# EAGLE library part MC9S12XF-144 (library freescale)
MC9S12XF512 Source: www.freescale.com .. MC9S12XF512V1RM.pdf
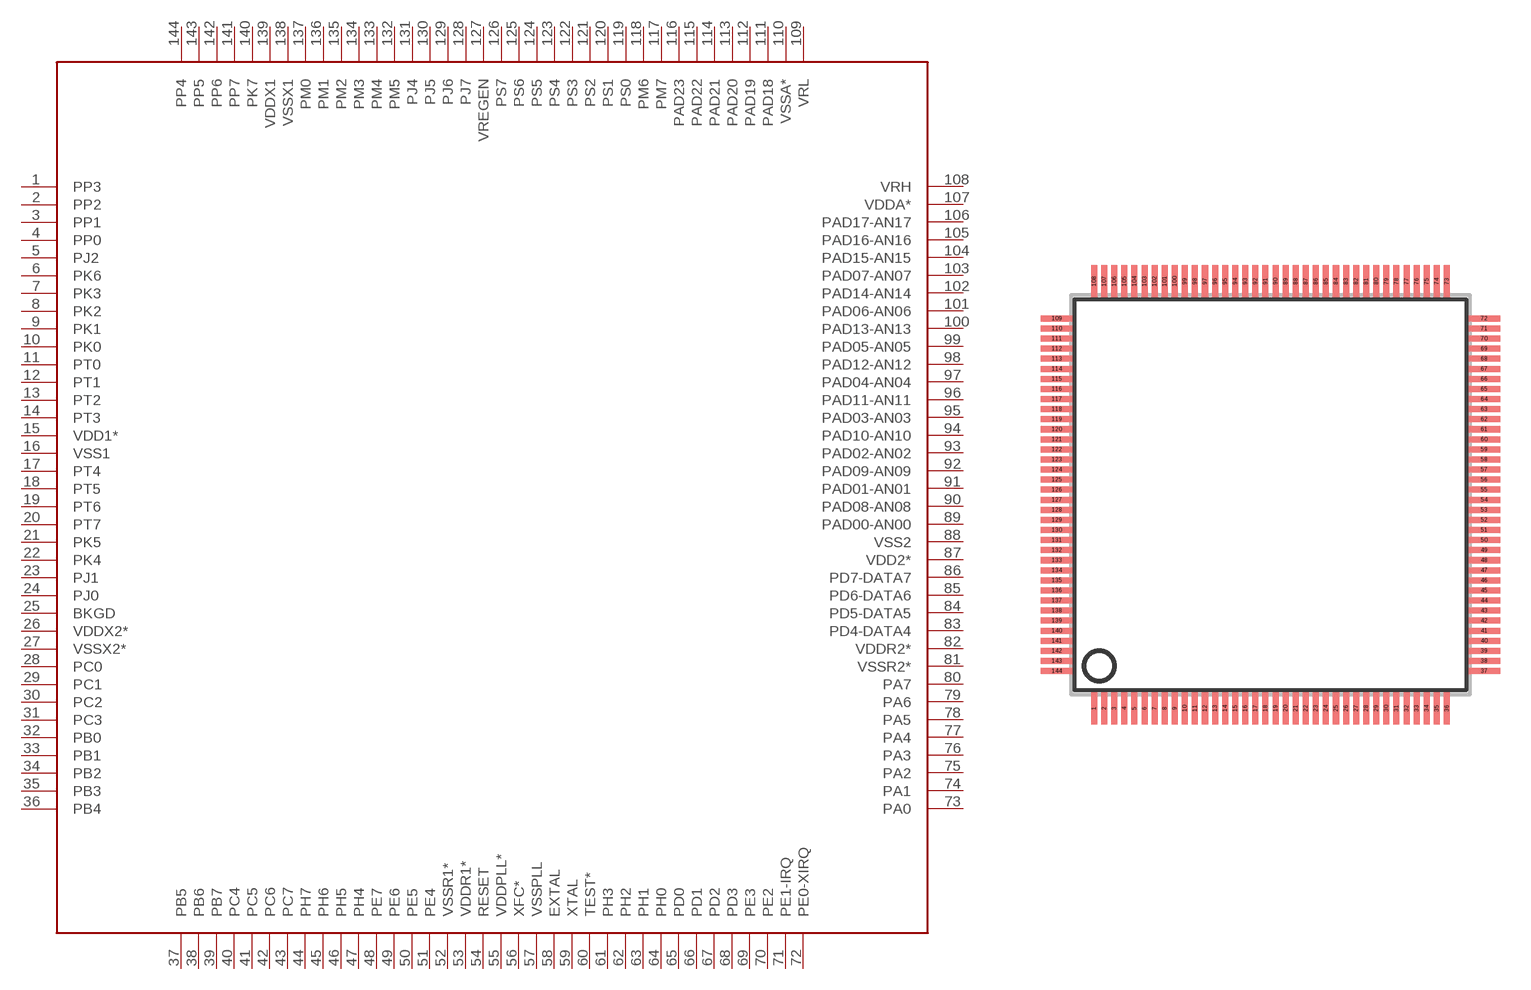
[diagram p5: symbol with the pads of SQFP-S-20X20-144; footprint SQFP-S-20X20-144]

Designator prefix IC

## MC9S12XF-144 (MPN: LFDAS12XFLT; OC_FARNELL: unknown; OC_NEWARK: 14M5920)  [SQFP-S-20X20-144]
1  PP3
2  PP2
3  PP1
4  PP0
5  PJ2
6  PK6
7  PK3
8  PK2
9  PK1
10  PK0
11  PT0
12  PT1
13  PT2
14  PT3
15  VDD1*  pwr
16  VSS1  pwr
17  PT4
18  PT5
19  PT6
20  PT7
21  PK5
22  PK4
23  PJ1
24  PJ0
25  BKGD
26  VDDX2*  pwr
27  VSSX2*  pwr
28  PC0
29  PC1
30  PC2
31  PC3
32  PB0
33  PB1
34  PB2
35  PB3
36  PB4
37  PB5
38  PB6
39  PB7
40  PC4
41  PC5
42  PC6
43  PC7
44  PH7
45  PH6
46  PH5
47  PH4
48  PE7
49  PE6
50  PE5
51  PE4
52  VSSR1*  pwr
53  VDDR1*  pwr
54  RESET
55  VDDPLL*  pwr
56  XFC*  pwr
57  VSSPLL  pwr
58  EXTAL  pas
59  XTAL  pas
60  TEST*  pwr
61  PH3
62  PH2
63  PH1
64  PH0
65  PD0
66  PD1
67  PD2
68  PD3
69  PE3
70  PE2
71  PE1-IRQ  in
72  PE0-XIRQ  in
73  PA0
74  PA1
75  PA2
76  PA3
77  PA4
78  PA5
79  PA6
80  PA7
81  VSSR2*  pwr
82  VDDR2*  pwr
83  PD4-DATA4
84  PD5-DATA5
85  PD6-DATA6
86  PD7-DATA7
87  VDD2*  pwr
88  VSS2  pwr
89  PAD00-AN00
90  PAD08-AN08
91  PAD01-AN01
92  PAD09-AN09
93  PAD02-AN02
94  PAD10-AN10
95  PAD03-AN03
96  PAD11-AN11
97  PAD04-AN04
98  PAD12-AN12
99  PAD05-AN05
100  PAD13-AN13
101  PAD06-AN06
102  PAD14-AN14
103  PAD07-AN07
104  PAD15-AN15
105  PAD16-AN16
106  PAD17-AN17
107  VDDA*  pwr
108  VRH  pwr
109  VRL  pwr
110  VSSA*  pwr
111  PAD18
112  PAD19
113  PAD20
114  PAD21
115  PAD22
116  PAD23
117  PM7
118  PM6
119  PS0
120  PS1
121  PS2
122  PS3
123  PS4
124  PS5
125  PS6
126  PS7
127  VREGEN
128  PJ7
129  PJ6
130  PJ5
131  PJ4
132  PM5
133  PM4
134  PM3
135  PM2
136  PM1
137  PM0
138  VSSX1
139  VDDX1  pwr
140  PK7
141  PP7
142  PP6
143  PP5
144  PP4

## Footprint SQFP-S-20X20-144 (pad centres in mm)
QFP144 shrink quad flat pack, square
smd 0.3 x 1.6: 1 -8.75,-10.6; 2 -8.25,-10.6; 3 -7.75,-10.6; 4 -7.25,-10.6; 5 -6.75,-10.6; 6 -6.25,-10.6; 7 -5.75,-10.6; 8 -5.25,-10.6; 9 -4.75,-10.6; 10 -4.25,-10.6; 11 -3.75,-10.6; 12 -3.25,-10.6; 13 -2.75,-10.6; 14 -2.25,-10.6; 15 -1.75,-10.6; 16 -1.25,-10.6; 17 -0.75,-10.6; 18 -0.25,-10.6; 19 0.25,-10.6; 20 0.75,-10.6; 21 1.25,-10.6; 22 1.75,-10.6; 23 2.25,-10.6; 24 2.75,-10.6; 25 3.25,-10.6; 26 3.75,-10.6; 27 4.25,-10.6; 28 4.75,-10.6; 29 5.25,-10.6; 30 5.75,-10.6; 31 6.25,-10.6; 32 6.75,-10.6; 33 7.25,-10.6; 34 7.75,-10.6; 35 8.25,-10.6; 36 8.75,-10.6; 73 8.75,10.6; 74 8.25,10.6; 75 7.75,10.6; 76 7.25,10.6; 77 6.75,10.6; 78 6.25,10.6; 79 5.75,10.6; 80 5.25,10.6; 81 4.75,10.6; 82 4.25,10.6; 83 3.75,10.6; 84 3.25,10.6; 85 2.75,10.6; 86 2.25,10.6; 87 1.75,10.6; 88 1.25,10.6; 89 0.75,10.6; 90 0.25,10.6; 91 -0.25,10.6; 92 -0.75,10.6; 93 -1.25,10.6; 94 -1.75,10.6; 95 -2.25,10.6; 96 -2.75,10.6; 97 -3.25,10.6; 98 -3.75,10.6; 99 -4.25,10.6; 100 -4.75,10.6; 101 -5.25,10.6; 102 -5.75,10.6; 103 -6.25,10.6; 104 -6.75,10.6; 105 -7.25,10.6; 106 -7.75,10.6; 107 -8.25,10.6; 108 -8.75,10.6
smd 1.6 x 0.3: 37 10.6,-8.75; 38 10.6,-8.25; 39 10.6,-7.75; 40 10.6,-7.25; 41 10.6,-6.75; 42 10.6,-6.25; 43 10.6,-5.75; 44 10.6,-5.25; 45 10.6,-4.75; 46 10.6,-4.25; 47 10.6,-3.75; 48 10.6,-3.25; 49 10.6,-2.75; 50 10.6,-2.25; 51 10.6,-1.75; 52 10.6,-1.25; 53 10.6,-0.75; 54 10.6,-0.25; 55 10.6,0.25; 56 10.6,0.75; 57 10.6,1.25; 58 10.6,1.75; 59 10.6,2.25; 60 10.6,2.75; 61 10.6,3.25; 62 10.6,3.75; 63 10.6,4.25; 64 10.6,4.75; 65 10.6,5.25; 66 10.6,5.75; 67 10.6,6.25; 68 10.6,6.75; 69 10.6,7.25; 70 10.6,7.75; 71 10.6,8.25; 72 10.6,8.75; 109 -10.6,8.75; 110 -10.6,8.25; 111 -10.6,7.75; 112 -10.6,7.25; 113 -10.6,6.75; 114 -10.6,6.25; 115 -10.6,5.75; 116 -10.6,5.25; 117 -10.6,4.75; 118 -10.6,4.25; 119 -10.6,3.75; 120 -10.6,3.25; 121 -10.6,2.75; 122 -10.6,2.25; 123 -10.6,1.75; 124 -10.6,1.25; 125 -10.6,0.75; 126 -10.6,0.25; 127 -10.6,-0.25; 128 -10.6,-0.75; 129 -10.6,-1.25; 130 -10.6,-1.75; 131 -10.6,-2.25; 132 -10.6,-2.75; 133 -10.6,-3.25; 134 -10.6,-3.75; 135 -10.6,-4.25; 136 -10.6,-4.75; 137 -10.6,-5.25; 138 -10.6,-5.75; 139 -10.6,-6.25; 140 -10.6,-6.75; 141 -10.6,-7.25; 142 -10.6,-7.75; 143 -10.6,-8.25; 144 -10.6,-8.75